# Altium footprint library Switch.PcbLib: 8 footprints
Each footprint in its own frame and in the unit in brackets; x right, y up, seen from the top. Pads: shape width x height; smd on the part's side, far side on the other; paste and mask are expansions set on the pad; w line width, h text height; cw(c..) or ccw(c..) is an arc to the next point about the centre after c.
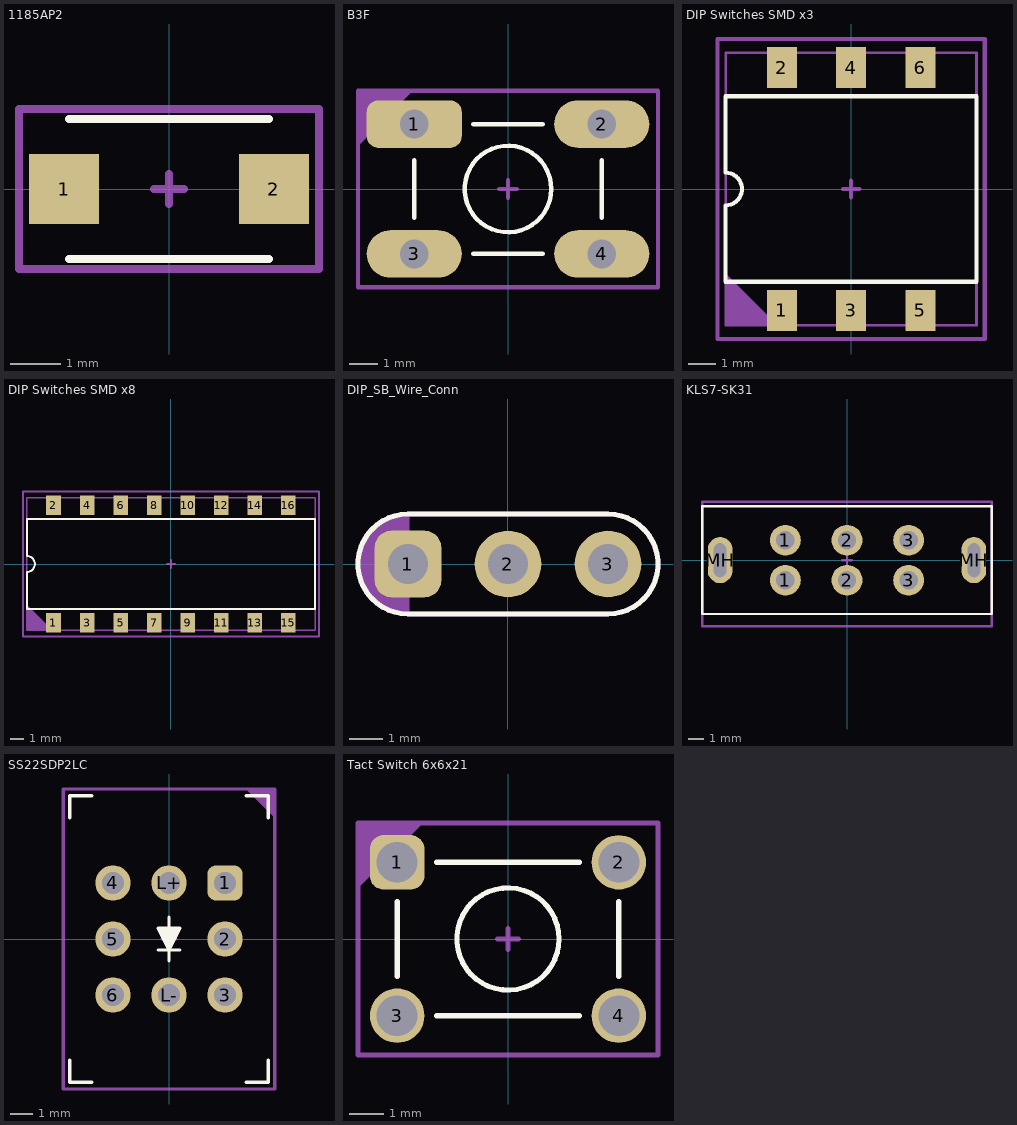
[diagram p0: the footprints below, top view; thin cyan lines are the x and y axes]

## 1185AP2 [mm]
pads (2):
  rect 1.4x1.4 smd: 1(-2.1,0) 2(2.1,0)
Top Overlay:
  lines w0.153: -2,-1.4 2,-1.4 ; -2,1.4 2,1.4
Top Assembly:
  lines w0.1: -3,-1.6 -3,1.6 3,1.6 3,-1.6 -3,-1.6
  text "'.Designator'" at -4.532,-0.333 h0.8
Top Courtyard:
  lines w0.153: -0.3,0 0.3,0 ; 0,-0.3 0,0.3 ; -3,-1.6 -3,1.6 3,1.6 3,-1.6 -3,-1.6
3D body "User Library-Pushbutton3x4x2.step": height 2, standoff 0, extent -2.45,-1.45 2.45,1.45

## B3F [mm]
pads (4):
  rrect50% 3.3x1.65 hole 1: 1(-3.25,2.25)
  oval 3.3x1.65 hole 1: 2(3.25,2.25) 3(-3.25,-2.25) 4(3.251,-2.25)
Top Overlay:
  circle w0.153: c0,0 r1.5
  lines w0.153: -3.25,-1 -3.25,1 ; -1.2,-2.25 1.2,-2.25 ; -1.2,2.25 1.2,2.25 ; 3.25,-1 3.25,1
Top Assembly:
  region: -5.2,3.4 -5.2,1.5 -3.3,3.4
  lines w0.1: -5.2,-3.4 5.2,-3.4 5.2,3.4 -5.2,3.4 -5.2,-3.4
  text "'.Designator'" at -4.532,-0.333 h0.8
Top Courtyard:
  lines w0.153: -0.3,0 0.3,0 ; 0,-0.3 0,0.3 ; -5.2,-3.4 5.2,-3.4 5.2,3.4 -5.2,3.4 -5.2,-3.4
3D body "B3F-1052--3DModel-STEP-273799.STEP": height 10.01, standoff -3.49, extent -3.85,-3 3.85,3

## DIP Switches SMD x3 [mm]
pads (6):
  rect 1.1x1.5 smd: 1(-2.54,-4.45) 2(-2.54,4.45) 3(0,-4.45) 4(0,4.45) 5(2.54,-4.45) 6(2.54,4.45)
Top Overlay:
  lines w0.153: -4.6,-3.4 -4.6,-0.6 ccw(c-4.6,0) -4.6,0.6 -4.6,3.4 4.6,3.4 4.6,-3.4 -4.6,-3.4
Top Assembly:
  region: -4.6,-5 -2.7,-5 -4.6,-3.1
  lines w0.1: -4.6,-5 4.6,-5 4.6,5 -4.6,5 -4.6,-5
  text "'.Designator'" at -4.532,-0.333 h0.8
Top Courtyard:
  lines w0.153: -0.3,0 0.3,0 ; 0,-0.3 0,0.3 ; -4.9,-5.5 -4.9,5.5 4.9,5.5 4.9,-5.5 -4.9,-5.5
3D body "User Library-DIP SW 3P.step": height 4.15, standoff 0, extent -4.545,-4.95 4.545,4.95

## DIP Switches SMD x8 [mm]
pads (16):
  rect 1.1x1.5 smd: 1(-8.89,-4.45) 2(-8.89,4.45) 3(-6.35,-4.45) 4(-6.35,4.45) 5(-3.81,-4.45) 6(-3.81,4.45) 7(-1.27,-4.45) 8(-1.27,4.45) 9(1.27,-4.45) 10(1.27,4.45) 11(3.81,-4.45) 12(3.81,4.45) 13(6.35,-4.45) 14(6.35,4.45) 15(8.89,-4.45) 16(8.89,4.45)
Top Overlay:
  lines w0.153: -10.9,-3.4 -10.9,-0.6 ccw(c-10.9,0) -10.9,0.6 -10.9,3.4 10.9,3.4 10.9,-3.4 -10.9,-3.4
Top Assembly:
  region: -10.9,-5 -9,-5 -10.9,-3.1
  lines w0.1: -10.9,-5 10.9,-5 10.9,5 -10.9,5 -10.9,-5
  text "'.Designator'" at -4.532,-0.333 h0.8
Top Courtyard:
  lines w0.153: -0.3,0 0.3,0 ; 0,-0.3 0,0.3 ; -11.2,-5.5 -11.2,5.5 11.2,5.5 11.2,-5.5 -11.2,-5.5
3D body "User Library-DIP SW 8P.step": height 4.15, standoff 0, extent -10.895,-4.95 10.895,4.95

## DIP_SB_Wire_Conn [mm]
pads (3):
  rrect50% 2x2 hole 1.2: 1(-3,0)
  round 2 hole 1.2: 2(0,0) 3(3,0)
Top Overlay:
  lines w0.153: -3,-1.5 cw(c-3,0) -3,1.5 3,1.5 cw(c3,0) 3,-1.5 -3,-1.5
Top Assembly:
  region: -3,-1.5 -3.148,-1.5 -3.438,-1.442 -3.711,-1.329 -3.956,-1.165 -4.165,-0.956 -4.329,-0.711 -4.442,-0.438 -4.5,-0.148 -4.5,0.148 -4.442,0.438 -4.329,0.711 -4.165,0.956 -3.956,1.165 -3.711,1.329 -3.438,1.442 -3.148,1.5 -3,1.5
  lines w0.1: -3,-1.5 cw(c-3,0) -3,1.5 ; -3,-1.5 3,-1.5 ccw(c3,0) 3,1.5 -3,1.5 ; -3,-1.5 -3,1.5
  text "'.Designator'" at -4.532,-0.333 h0.8
Top Courtyard:
  lines w0.153: -0.3,0 0.3,0 ; 0,-0.3 0,0.3 ; -3,-1.5 cw(c-3,0) -3,1.5 3,1.5 cw(c3,0) 3,-1.5 -3,-1.5

## KLS7-SK31 [mm]
pads (8):
  round 2 hole 1.2: 1(-4,-1.3) 1(-4,1.3) 2(0,-1.3) 2(0,1.3) 3(4,-1.3) 3(4,1.3)
  oval 1.6x3 hole 0.8 slot 2.2 at 90 deg: MH(-8.25,0) MH(8.25,0)
Top Overlay:
  lines w0.153: -9.4,-3.5 9.4,-3.5 9.4,3.5 -9.4,3.5 -9.4,-3.5
Mechanical 1:
  lines w0.1: -9.1,-4.3 9.1,-4.3
  text "PCB EDGE" at -3.066,-4 h0.8
Top Assembly:
  lines w0.1: -9.4,-3.5 -9.4,3.5 9.4,3.5 9.4,-3.5 -9.4,-3.5
  text "'.Designator'" at -4.532,-0.333 h0.8
Top Courtyard:
  lines w0.153: -0.3,0 0.3,0 ; 0,-0.3 0,0.3 ; -9.4,-4.3 -9.4,3.8 9.4,3.8 9.4,-4.3 -9.4,-4.3
3D body "KLS7-SK31-22F02 v2.step": height 9, standoff -3, extent -8.5,-10.05 8.5,3.75

## SS22SDP2LC [mm]
pads (8):
  rrect50% 1.6x1.6 hole 1: 1(2.54,2.54)
  round 1.6 hole 1: 2(2.54,0) 3(2.54,-2.54) 4(-2.54,2.54) 5(-2.54,0) 6(-2.54,-2.54) L+(0,2.54) L-(0,-2.54)
Top Overlay:
  region: 0.5,0.5 0,-0.5 -0.5,0.5
  lines w0.153: -4.5,-5.5 -4.5,-6.5 -3.5,-6.5 ; -4.5,5.5 -4.5,6.5 -3.5,6.5 ; -0.5,-0.5 0.5,-0.5 ; 0,-1 0,-0.5 ; 0,0.5 0,1 ; 3.5,-6.5 4.5,-6.5 4.5,-5.5 ; 3.5,6.5 4.5,6.5 4.5,5.5 ; 0,-0.5 0.5,0.5 -0.5,0.5 0,-0.5
Top Assembly:
  region: 3.5,6.8 4.8,5.5 4.8,6.8
  lines w0.1: -4.8,-6.8 4.8,-6.8 4.8,6.8 -4.8,6.8 -4.8,-6.8
  text "'.Designator'" at -0.333,4.532 h0.8
Top Courtyard:
  lines w0.153: -0.3,0 0.3,0 ; 0,-0.3 0,0.3 ; -4.8,-6.8 4.8,-6.8 4.8,6.8 -4.8,6.8 -4.8,-6.8
3D body "AT4065F.stp": height 9.61, standoff 4, extent -4.259,-6.5 4.25,4.498
3D body "SS22SDP2LC.stp": height 6.58, standoff -3.4, extent -4.5,-6.505 4.492,6.5

## Tact Switch 6x6x21 [mm]
pads (4):
  rrect50% 1.6x1.6 hole 1.2: 1(-3.25,2.25)
  round 1.6 hole 1.2: 2(3.25,2.25) 3(-3.25,-2.25) 4(3.25,-2.25)
Top Overlay:
  circle w0.153: c0,0 r1.5
  lines w0.153: -3.25,-1.1 -3.25,1.1 ; -2.1,-2.25 2.1,-2.25 ; -2.1,2.25 2.1,2.25 ; 3.25,-1.1 3.25,1.1
Top Assembly:
  region: -4.4,3.4 -4.4,1.5 -2.5,3.4
  lines w0.1: -4.4,-3.4 -4.4,3.4 4.4,3.4 4.4,-3.4 -4.4,-3.4
  text "'.Designator'" at -4.532,-0.333 h0.8
Top Courtyard:
  lines w0.153: -0.3,0 0.3,0 ; 0,-0.3 0,0.3 ; -4.4,-3.4 4.4,-3.4 4.4,3.4 -4.4,3.4 -4.4,-3.4
3D body "User Library-diptronics tactile dts-63k.step": height 24.8, standoff -3.4, extent -3.95,-3.1 3.95,3.1